# EAGLE library part HD63484 (library Custom)
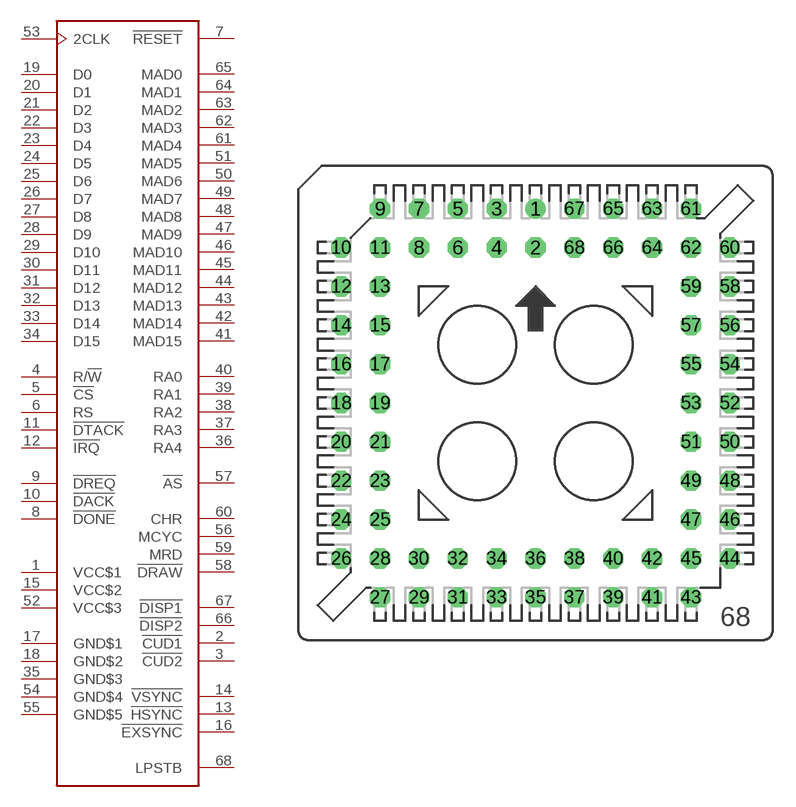
[diagram p21: symbol with the pads of S68; footprint S68]

Designator prefix -

## HD63484  [S68]
1  VCC$1  pwr
2  !CUD1  out
3  !CUD2  out
4  R/!W  in
5  !CS
6  RS
7  !RESET
8  !DONE
9  !DREQ  out
10  !DACK  in
11  !DTACK  out
12  !IRQ  in
13  !HSYNC  out
14  !VSYNC  out
15  VCC$2  pwr
16  !EXSYNC  out
17  GND$1  pwr
18  GND$2  pwr
19  D0
20  D1
21  D2
22  D3
23  D4
24  D5
25  D6
26  D7
27  D8
28  D9
29  D10
30  D11
31  D12
32  D13
33  D14
34  D15
35  GND$3  pwr
36  RA4  out
37  RA3  out
38  RA2  out
39  RA1  out
40  RA0  out
41  MAD15
42  MAD14
43  MAD13
44  MAD12
45  MAD11
46  MAD10
47  MAD9
48  MAD8
49  MAD7
50  MAD6
51  MAD5
52  VCC$3  pwr
53  2CLK  in
54  GND$4  pwr
55  GND$5  pwr
56  MCYC  out
57  !AS  out
58  !DRAW  out
59  MRD  out
60  CHR  out
61  MAD4
62  MAD3
63  MAD2
64  MAD1
65  MAD0
66  !DISP2  out
67  !DISP1  out
68  LPSTB

## Footprint S68 (pad centres in mm)
PLCC SOCKET
drill 0.813: 1 0,12.7
drill 0.813 octagon: 2 0,10.16; 3 -2.54,12.7; 4 -2.54,10.16; 5 -5.08,12.7; 6 -5.08,10.16; 7 -7.62,12.7; 8 -7.62,10.16; 9 -10.16,12.7; 10 -12.7,10.16; 11 -10.16,10.16; 12 -12.7,7.62; 13 -10.16,7.62; 14 -12.7,5.08; 15 -10.16,5.08; 16 -12.7,2.54; 17 -10.16,2.54; 18 -12.7,0; 19 -10.16,0; 20 -12.7,-2.54; 21 -10.16,-2.54; 22 -12.7,-5.08; 23 -10.16,-5.08; 24 -12.7,-7.62; 25 -10.16,-7.62; 26 -12.7,-10.16; 27 -10.16,-12.7; 28 -10.16,-10.16; 29 -7.62,-12.7; 30 -7.62,-10.16; 31 -5.08,-12.7; 32 -5.08,-10.16; 33 -2.54,-12.7; 34 -2.54,-10.16; 35 0,-12.7; 36 0,-10.16; 37 2.54,-12.7; 38 2.54,-10.16; 39 5.08,-12.7; 40 5.08,-10.16; 41 7.62,-12.7; 42 7.62,-10.16; 43 10.16,-12.7; 44 12.7,-10.16; 45 10.16,-10.16; 46 12.7,-7.62; 47 10.16,-7.62; 48 12.7,-5.08; 49 10.16,-5.08; 50 12.7,-2.54; 51 10.16,-2.54; 52 12.7,0; 53 10.16,0; 54 12.7,2.54; 55 10.16,2.54; 56 12.7,5.08; 57 10.16,5.08; 58 12.7,7.62; 59 10.16,7.62; 60 12.7,10.16; 61 10.16,12.7; 62 10.16,10.16; 63 7.62,12.7; 64 7.62,10.16; 65 5.08,12.7; 66 5.08,10.16; 67 2.54,12.7; 68 2.54,10.16